# EAGLE library part MAX4203 (library CostumHafiz)
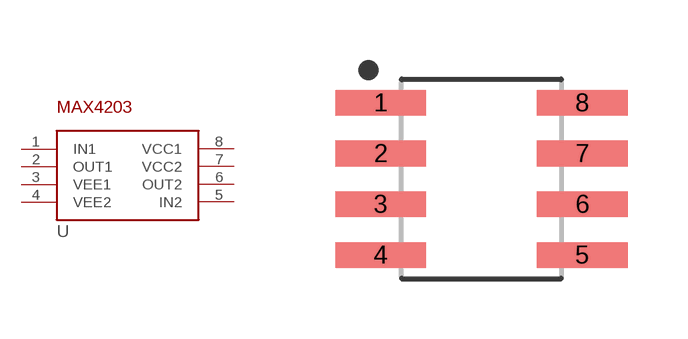
[diagram p2: symbol with the pads of SOIC127P599X175-8; footprint SOIC127P599X175-8]

Designator prefix -

## MAX4203  [SOIC127P599X175-8]
1  IN1
2  OUT1
3  VEE1
4  VEE2
5  IN2
6  OUT2
7  VCC2
8  VCC1

## Footprint SOIC127P599X175-8 (pad centres in mm)
8-SOIC, 1.27 mm pitch, 6.00 mm span, 4.90 X 3.90 X 1.75 mm body 8-pin SOIC package with 1.27 mm pitch, 6.00 mm span with body size 4.90 X 3.90 X 1.75 mm
smd 2.272 x 0.642: 1 -2.522,1.905; 2 -2.522,0.635; 3 -2.522,-0.635; 4 -2.522,-1.905; 5 2.522,-1.905; 6 2.522,-0.635; 7 2.522,0.635; 8 2.522,1.905